# Altium schematic symbol library 5v_supply_Schem.SchLib: 1 symbol
Pins are listed as number, name and electrical type; pins without a type are passive.

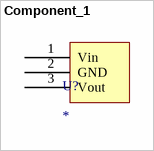
[diagram p0: symbol Component_1]

## Component_1
designator U?
footprint 5v_supply
pins: 1 Vin, 2 GND, 3 Vout